# Altium schematic symbol library AD9524.SchLib: 1 symbol
Pins are listed as number, name and electrical type; pins without a type are passive.

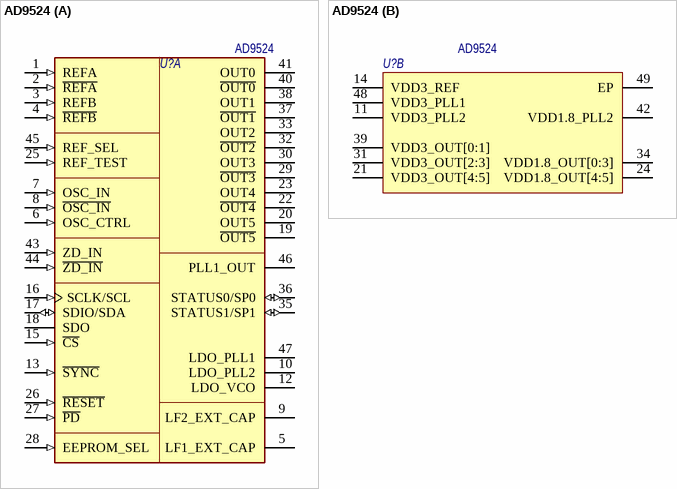
[diagram p0: symbol AD9524]

## AD9524
designator U?, comment Наименование: AD9524  (hidden comment: AD9524BCPZ)
6 Differential / 13 LVCMOS Outputs, Dual Loop Clock Generator, 3.3 V Supply, Industrial, 48-pin QFN (CP-48-1), Reel; Manufacturer: Analog Devices; PartNumber: AD9524BCPZ-REEL7; Supply Voltage (V): 3.3; On-Chip VCO or DCO: Yes; Output Logic: LVCMOS, HSTL, LVDS, LVPECL; I/O Interface: Serial; # of Inputs: 1; # of Outputs: 13; Max f-out: 1 GHz; Потребление, Вт: 0.3; Mounting Technology: Surface Mount; ComponentLink1Description: Manufacturer URL; ComponentLink1URL: http://www.analog.com/en/index.html; PackageReference: CP-48-1; PackageDescription: 48-Pin Lead Frame Chip Scale Package, Body 7 x 7 mm, Pitch 0.5 mm; ComponentLink4Description: Product URL; ComponentLink4URL: http://www.analog.com/en/clock-and-timing/clock-generation-and-distribution/ad9524/products/product.html; Packing: Reel; Code_JEDEC: MO-220-VKKD-2; ComponentLink3URL: http:/www.analog.com/static/imported-files/packages/PKG_PDF/LFCSP(CP)/CP-48/CP_48_1.pdf; ComponentLink3Description: Package Specification; ComponentLink2URL: http://www.analog.com/static/imported-files/data_sheets/AD9524.pdf; ComponentLink2Description: Datasheet; DatasheetVersion: Rev. C; Назначение: 6 Differential / 13 LVCMOS Outputs, Dual Loop Clock Generator, 3.3 V Supply, Industrial, 48-pin QFN (CP-48-1), Reel
footprint QFN-48 (QFN, 48-Leads, Body 7,00x7,00mm, Pitch 0,50mm, Thermal Pad 5,10x5,10mm, IPC Medium Density)
part A pins: 1 REFA (in) "Reference Clock Input A. Along with R\E\F\A\, this pin is the differential input for the PLL reference. Alternatively, this pin can be programmed as a single-ended 3.3 V CMOS input.", 2 ~{REFA} (in) "Complementary Reference Clock Input A. Along with REFA, this pin is the differential input for the PLL reference. Alternatively, this pin can be programmed as a single-ended 3.3V CMOS input.", 3 REFB (in) "Reference Clock Input B. Along with R\E\F\B\,this pin is the differential input for the PLL reference. Alternatively, this pin can be programmed as a single-ended 3.3 V CMOS input.", 4 ~{REFB} (in) "Complementary Reference Clock Input B. Along with REFB, this pin is the differential input for the PLL reference. Alternatively, this pin can be programmed as a single-ended 3.3 V CMOS input.", 5 LF1_EXT_CAP "PLL1 External Loop Filter Capacitor. Connect this pin to ground.", 6 OSC_CTRL (in) "Oscillator Control Voltage. Connect to the voltage control pin of the external oscillator.", 7 OSC_IN (in) "PLL1 Oscillator Input. Along with O\S\C\_\I\N\, this pin is the differential input for the PLL reference. Alternatively, this pin can be programmed as a single-ended 3.3 V CMOS input.", 8 ~{OSC_IN} (in) "Complementary PLL1 Oscillator Input. Along with OSC_IN, this pin is the differential input for the PLL reference. Alternatively, this pin can be programmed as a single-ended 3.3 V CMOS input.", 9 LF2_EXT_CAP "PLL2 External Loop Filter Capacitor. Connect this pin to the LDO_VCO pin.", 10 LDO_PLL2 "LDO Decoupling Pin for PLL2 1.8 V Internal Regulator. Connect a 0.47 uF decoupling capacitor from this pin to ground. Note that for best performance, the LDO bypass capacitor must be placed in close proximity to the device.", 12 LDO_VCO "2.5 V LDO Internal Regulator Decoupling Pin for VCO. Connect a 0.47 uF decoupling capacitor from this pin to ground. Note that, for best performance, the LDO bypass capacitor must be placed in close proximity to the device.", 13 ~{SYNC} (in) "Manual Synchronization. This pin initiates a manual synchronization and has an internal 40 k ohm pull-up resistor", 15 ~{CS} (in) "Serial Control Port Chip Select, Active Low. This pin has an internal 40 k ohm pull-up resistor.", 16 SCLK/SCL (in) "Serial Control Port Clock Signal for SPI Mode (SCLK) or I2C Mode (SCL). Data clock for serial programming. This pin has an internal 40 k ohm pull-down resistor in SPI mode but is high impedance in I2C mode.", 17 SDIO/SDA (io) "Serial Control Port Bidirectional Serial Data In/Out for SPI Mode (SDIO) or I2C Mode (SDA).", 18 SDO (hiz) "Serial Data Output. Use this pin to read data in 4-wire mode (high impedance in 3-wire mode). There is no internal pull-up/pull-down resistor on this pin.", 19 ~{OUT5} (hiz) "Complementary Clock Output 5. This pin can be configured as one side of a differential LVPECL/ LVDS/HSTL output or as a single-ended CMOS output.", 20 OUT5 (hiz) "Clock Output 5. This pin can be configured as one side of a differential LVPECL/LVDS/HSTL output or as a single-ended CMOS output.", 22 ~{OUT4} (hiz) "Complementary Clock Output 4. This pin can be configured as one side of a differential LVPECL/ LVDS/HSTL output or as a single-ended CMOS output.", 23 OUT4 (hiz) "Clock Output 4. This pin can be configured as one side of a differential LVPECL/LVDS/HSTL output or as a single-ended CMOS output.", 25 REF_TEST (in) "Test Input to PLL1 Phase Detector.", 26 ~{RESET} (in) "Digital Input, Active Low. Resets internal logic to default states. This pin has an internal 40 k ohm pull-up resistor.", 27 ~{PD} (in) "Chip Power-Down, Active Low. This pin has an internal 40 k ohm pull-up resistor.", 28 EEPROM_SEL (in) "EEPROM Select. Setting this pin high selects the register values stored in the internal EEPROM to be loaded at reset and/or power-up. Setting this pin low causes the AD9524 to load the hard- coded default register values at (See Datasheet)", 29 ~{OUT3} (hiz) "Complementary Clock Output 3. This pin can be configured as one side of a differential LVPECL/ LVDS/HSTL output or as a single-ended CMOS output.", 30 OUT3 (hiz) "Square Wave Clocking Output 3. This pin can be configured as one side of a differential LVPECL/ LVDS/HSTL output or as a single-ended CMOS output.", 32 ~{OUT2} (hiz) "Complementary Clock Output 2. This pin can be configured as one side of a differential LVPECL/ LVDS/HSTL output or as a single-ended CMOS output.", 33 OUT2 (hiz) "Clock Output 2. This pin can be configured as one side of a differential LVPECL/LVDS/HSTL output or as a single-ended CMOS output.", 35 STATUS1/SP1 (io) "Lock Detect and Other Status Signals (STATUS1)/I2C Address (SP1).", 36 STATUS0/SP0 (io) "Lock Detect and Other Status Signals (STATUS0)/I2C Address (SP0).", 37 ~{OUT1} (hiz) "Complementary Clock Output 1. This pin can be configured as one side of a differential LVPECL/ LVDS/HSTL output or as a single-ended CMOS output.", 38 OUT1 (hiz) "Clock Output 1. This pin can be configured as one side of a differential LVPECL/LVDS/HSTL output or as a single-ended CMOS output.", 40 ~{OUT0} (hiz) "Complementary Clock Output 0. This pin can be configured as one side of a differential LVPECL/ LVDS/HSTL output or as a single-ended CMOS output.", 41 OUT0 (hiz) "Clock Output 0. This pin can be configured as one side of a differential LVPECL/LVDS/HSTL output or as a single-ended CMOS output.", 43 ZD_IN (in) "External Zero Delay Clock Input. Along with Z\D\_\I\N\, this pin is the differential input for the PLL reference. Alternatively, this pin can be programmed as a single-ended 3.3 V CMOS input.", 44 ~{ZD_IN} (in) "Complementary External Zero Delay Clock Input. Along with ZD_IN, this pin is the differential input for the PLL reference. Alternatively, this pin can be programmed as a single-ended 3.3 V CMOS input.", 45 REF_SEL (in) "Reference Input Select. This pin has an internal 40 k ohm pull-down resistor.", 46 PLL1_OUT (hiz) "Single-Ended CMOS Output from PLL1. This pin has settings for weak and strong in Register 0x1BA, Bit 4 (see Table 51).", 47 LDO_PLL1 "1.8 V Internal LDO Regulator Decoupling Pin for PLL1. Connect a 0.47 uF decoupling capacitor from this pin to ground. Note that, for best performance, the LDO bypass capacitor must be placed in close proximity to the device."
part B pins: 11 VDD3_PLL2 (power) "3.3 V Supply for PLL2.", 14 VDD3_REF (power) "3.3 V Supply for Output Clock Drivers Reference.", 21 VDD3_OUT[4:5] (power) "3.3 V Supply for Output 4 and Output 5 Clock Drivers.", 24 VDD1.8_OUT[4:5] (power) "1.8 V Supply for Output 4 and Output 5 Clock Dividers.", 31 VDD3_OUT[2:3] (power) "3.3 V Supply Output 2 and Supply Output 3 Clock Drivers.", 34 VDD1.8_OUT[0:3] (power) "1.8 V Supply for Output 0, Output 1, Output 2, and Output 3 Clock Dividers.", 39 VDD3_OUT[0:1] (power) "3.3 V Supply Output 0 and Supply Output 1 Clock Drivers.", 42 VDD1.8_PLL2 (power) "1.8 V Supply for PLL2.", 48 VDD3_PLL1 (power) "3.3 V Supply PLL1. Use the same supply as VCXO.", 49 EP (power) "Exposed Paddle. The exposed paddle is the ground connection on the chip. It must be soldered to the analog ground of the PCB to ensure proper functionality and heat dissipation, noise, and mechanical strength benefits."